# EAGLE library part GSB1C41110SSHR (library GSB1C41110SSHR)
Check availability <https://pricing.snapeda.com/parts/GSB1C41110SSHR/Amphenol%20Canada/view-part?ref=eda>
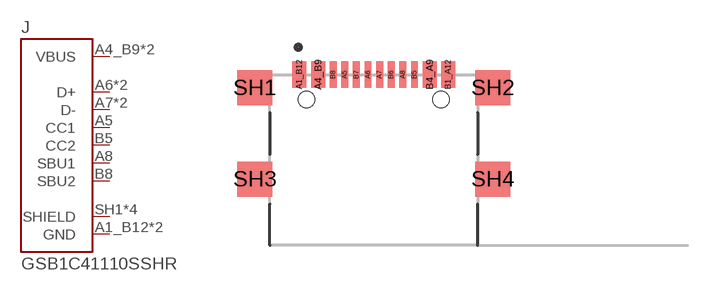
[diagram p0: symbol with the pads of AMPHENOL_GSB1C41110SSHR; footprint AMPHENOL_GSB1C41110SSHR]

Designator prefix J

## GSB1C41110SSHR (AVAILABILITY: In Stock; CHECK_PRICES: https://www.snapeda.com/parts/GSB1C41110SSHR/Amphenol/view-part/?ref=eda; DESCRIPTION: USB2.0, Type C, Top mount, Center Height 1.63mm, Single Row Surface Mount; MF: Amphenol Canada; MP: GSB1C41110SSHR; PACKAGE: None; PRICE: None; SNAPEDA_LINK: https://www.snapeda.com/parts/GSB1C41110SSHR/Amphenol/view-part/?ref=snap)  [AMPHENOL_GSB1C41110SSHR]
A1_B12  GND  pwr
A4_B9  VBUS  pwr
A5  CC1
A6  D+
A7  D-
A8  SBU1  nc
B1_A12  GND  pwr
B4_A9  VBUS  pwr
B5  CC2
B6  D+
B7  D-
B8  SBU2  nc
SH1  SHIELD  pas
SH2  SHIELD  pas
SH3  SHIELD  pas
SH4  SHIELD  pas

## Footprint AMPHENOL_GSB1C41110SSHR (pad centres in mm)
smd 0.6 x 1.15: A1_B12 -3.2,3.68; A4_B9 -2.4,3.68; B1_A12 3.2,3.68; B4_A9 2.4,3.68
smd 0.3 x 1.15: A5 -1.25,3.68; A6 -0.25,3.68; A7 0.25,3.68; A8 1.25,3.68; B5 1.75,3.68; B6 0.75,3.68; B7 -0.75,3.68; B8 -1.75,3.68
smd 1.5 x 1.5: SH1 -5.12,3.105; SH2 5.12,3.105; SH3 -5.12,-0.825; SH4 5.12,-0.825
hole 0.7 at -2.89,2.605
hole 0.7 at 2.89,2.605